# EAGLE library part RMCM01 (library Neel)
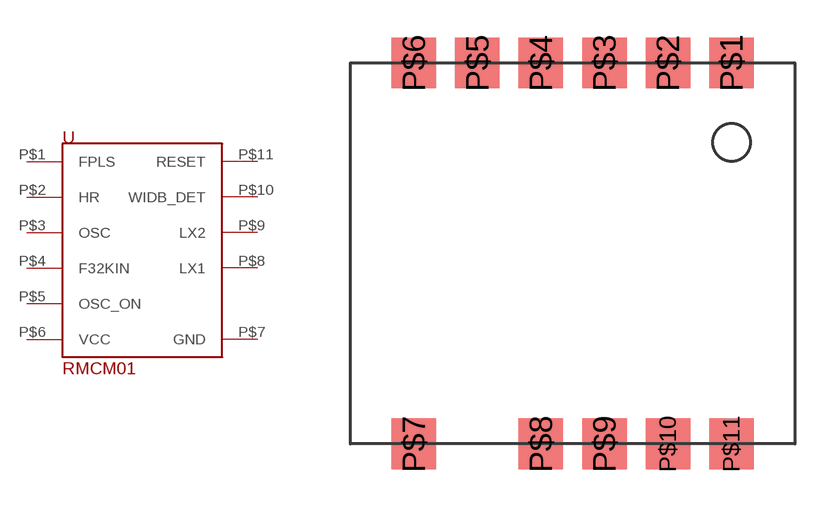
[diagram p13: symbol with the pads of RMCM01; footprint RMCM01]

Designator prefix -

## RMCM01  [RMCM01]
P$1  FPLS
P$2  HR
P$3  OSC
P$4  F32KIN
P$5  OSC_ON
P$6  VCC
P$7  GND
P$8  LX1
P$9  LX2
P$10  WIDB_DET
P$11  RESET

## Footprint RMCM01 (pad centres in mm)
smd 1.778 x 2.032: P$1 6.35,7.62; P$2 3.81,7.62; P$3 1.27,7.62; P$4 -1.27,7.62; P$5 -3.81,7.62; P$6 -6.35,7.62; P$7 -6.35,-7.62; P$8 -1.27,-7.62; P$9 1.27,-7.62; P$10 3.81,-7.62; P$11 6.35,-7.62